# Altium schematic symbol library VOLTAGE REGULATOR - LINEAR.SchLib: 1 symbol
Pins are listed as number, name and electrical type; pins without a type are passive.

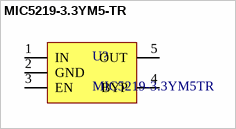
[diagram p0: symbol MIC5219-3.3YM5-TR]

## MIC5219-3.3YM5-TR
designator U?, comment MIC5219-3.3YM5TR
Fixed 3V3 500mA SOT-23-5 Linear Voltage Regulators; Manufacturer: Microchip; Voltage - Input (Max): 12V; Part Number: MIC5219-3.3YM5TR; Package: SOT-23-5; Output Type: Fixed; Voltage - Output (Fixed): 3V3; Output Current (Max): 500mA; Supplier 1: RSComponents; Supplier 2: Newark; Supplier Part Number 1: 9101685; Supplier Part Number 2: 98Y0269
footprint Microchip SOT-23-5
pins: 1 IN, 2 GND, 3 EN, 4 BYP, 5 OUT